# Altium footprint library LQFP64-7x7.PcbLib: 1 footprints
Each footprint in its own frame and in the unit in brackets; x right, y up, seen from the top. Pads: shape width x height; smd on the part's side, far side on the other; paste and mask are expansions set on the pad; w line width, h text height; cw(c..) or ccw(c..) is an arc to the next point about the centre after c.
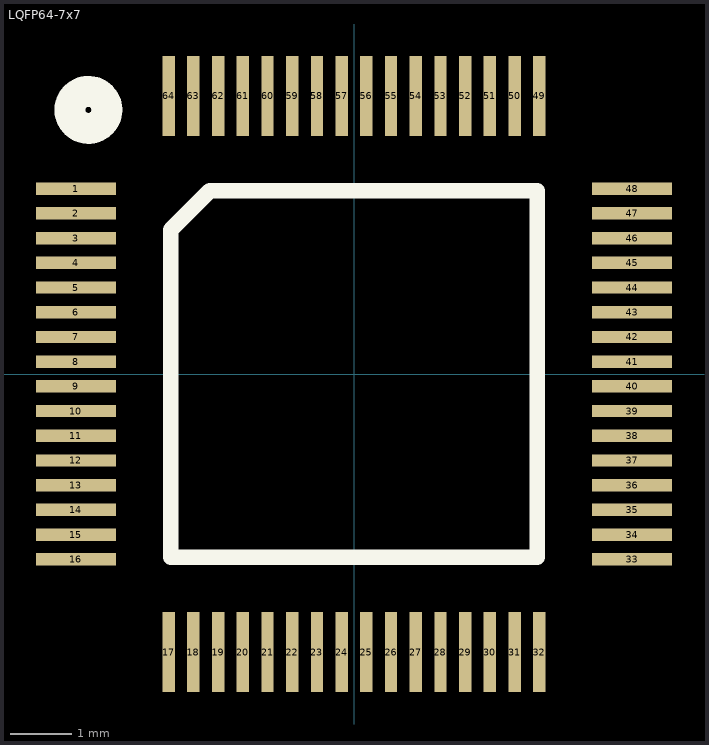
[diagram p0: the footprint, top view; thin cyan lines are the x and y axes]

## LQFP64-7x7 [mm]
pads (64):
  rect 1.3x0.2 smd: 1(-4.5,3) 2(-4.5,2.6) 3(-4.5,2.2) 4(-4.5,1.8) 5(-4.5,1.4) 6(-4.5,1) 7(-4.5,0.6) 8(-4.5,0.2) 9(-4.5,-0.2) 10(-4.5,-0.6) 11(-4.5,-1) 12(-4.5,-1.4) 13(-4.5,-1.8) 14(-4.5,-2.2) 15(-4.5,-2.6) 16(-4.5,-3) 33(4.5,-3) 34(4.5,-2.6) 35(4.5,-2.2) 36(4.5,-1.8) 37(4.5,-1.4) 38(4.5,-1) 39(4.5,-0.6) 40(4.5,-0.2) 41(4.5,0.2) 42(4.5,0.6) 43(4.5,1) 44(4.5,1.4) 45(4.5,1.8) 46(4.5,2.2) 47(4.5,2.6) 48(4.5,3)
  rect 0.2x1.3 smd: 17(-3,-4.5) 18(-2.6,-4.5) 19(-2.2,-4.5) 20(-1.8,-4.5) 21(-1.4,-4.5) 22(-1,-4.5) 23(-0.6,-4.5) 24(-0.2,-4.5) 25(0.2,-4.5) 26(0.6,-4.5) 27(1,-4.5) 28(1.4,-4.5) 29(1.8,-4.5) 30(2.2,-4.5) 31(2.6,-4.5) 32(3,-4.5) 49(3,4.5) 50(2.6,4.5) 51(2.2,4.5) 52(1.8,4.5) 53(1.4,4.5) 54(1,4.5) 55(0.6,4.5) 56(0.2,4.5) 57(-0.2,4.5) 58(-0.6,4.5) 59(-1,4.5) 60(-1.4,4.5) 61(-1.8,4.5) 62(-2.2,4.5) 63(-2.6,4.5) 64(-3,4.5)
Top Overlay:
  circle w0.5: c-4.3,4.275 r0.3
  lines w0.254: -2.965,-2.965 -2.965,2.333 -2.333,2.965 2.965,2.965 2.965,-2.965 -2.965,-2.965